# EAGLE library part TP-1X7 (library pad)
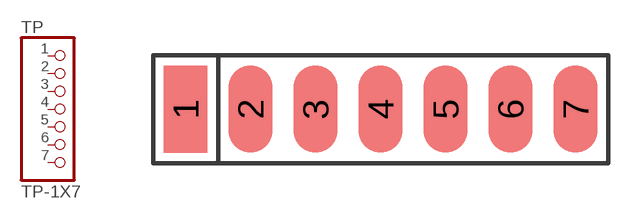
[diagram p2: symbol with the pads of 1X07; footprint 1X07]

Designator prefix TP

## TP-1X7  [1X07]
1  1  pas
2  2  pas
3  3  pas
4  4  pas
5  5  pas
6  6  pas
7  7  pas

## Footprint 1X07 (pad centres in mm)
smd 2 x 4: 1 -9,0; 2 -6,0; 3 -3,0; 4 0,0; 5 3,0; 6 6,0; 7 9,0